# Altium integrated library Linear Technology Power Management Switching Regulator LTC1174-LTC3901.IntLib: 2647 symbols (part 298 of 364)
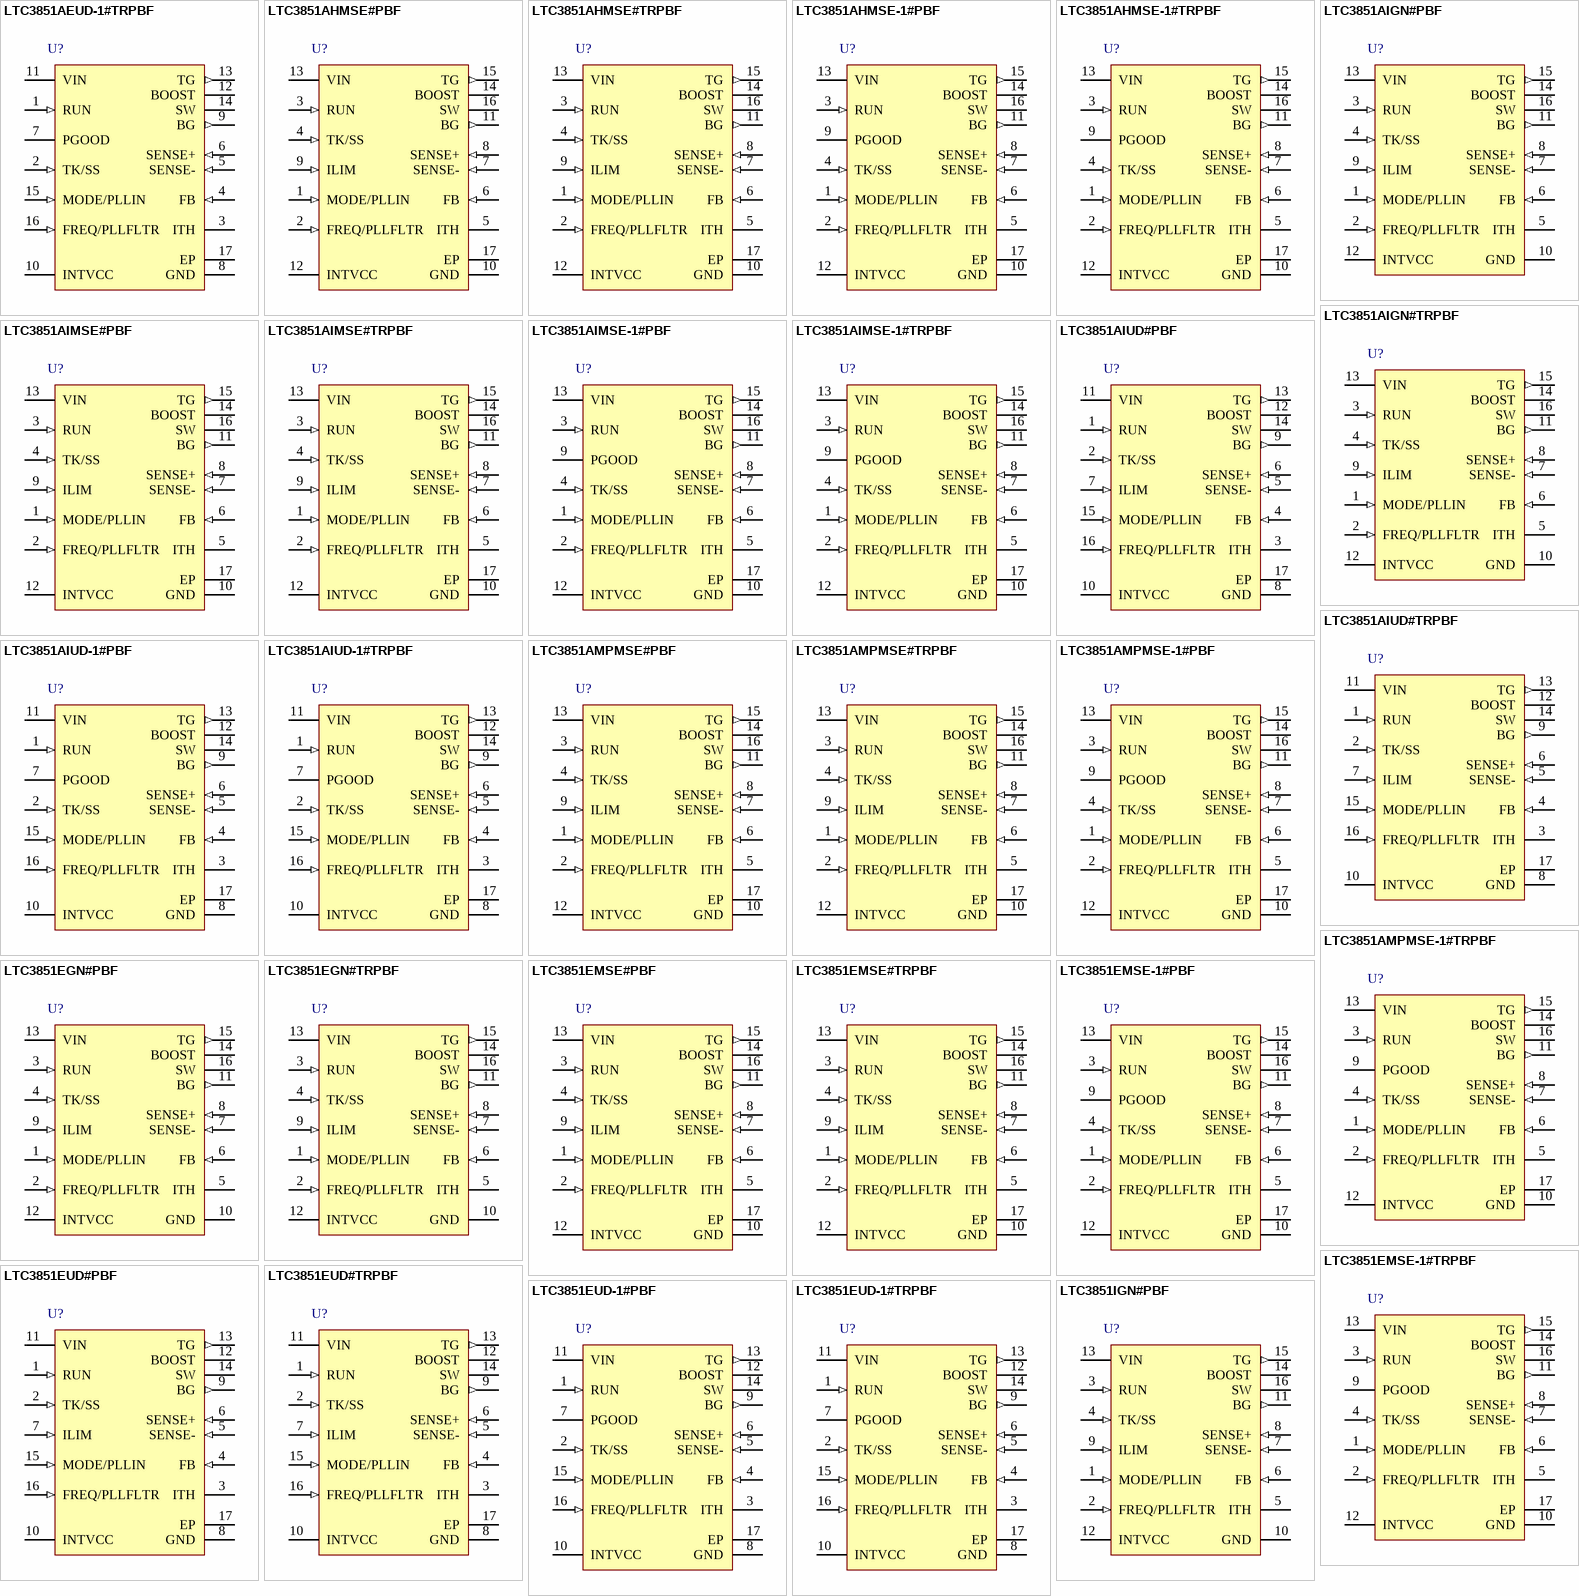
[diagram p271: symbols LTC3851AEUD-1#TRPBF to LTC3851IGN#PBF]

## LTC3851EUD#TRPBF
designator U?
Synchronous Step-Down Switching Regulator Controller, 16-pin QFN (UD-16), -40 to 85 degC, Pb-Free, Tape and Reel; Manufacturer: Linear Technology; PartNumber: LTC3851EUD#TRPBF; Frequency Sync Range: 250kHz - 750kHz; Number of Outputs: 1; DatasheetVersion: Rev. B; PackageVersion: Jun-10; PackageReference: UD-16; PackageDescription: 16-Pin Plastic QFN, Body 3 x 3 mm, Pitch 0.5 mm; Supplier 1: Digi-Key; Supplier Part Number 1: LTC3851EUD#TRPBF-ND; Supplier 2: Newark; Supplier Part Number 2: 15N5416; Packing: Tape and Reel; RoHS: TRUE; Mounting Technology: Surface Mount; Code_JEDEC: MO-220; ComponentLink1Description: Manufacturer URL; ComponentLink1URL: http://www.linear.com/; ComponentLink2Description: Datasheet; ComponentLink2URL: http://cds.linear.com/docs/en/datasheet/3851fb.pdf; ComponentLink3Description: Package Specification; ComponentLink3URL: http://cds.linear.com/docs/en/packaging/QFN_16_05-08-1691.pdf
footprint LT-UD-16_N (QFN, 16-Leads, Body 3x3mm, Pitch 0.5mm, Thermal Pad 1.45x1.45mm, IPC Medium Density)
footprint LT-UD-16_L (QFN, 16-Leads, Body 3x3mm, Pitch 0.5mm, Thermal Pad 1.45x1.45mm, IPC High Density)
footprint LT-UD-16_M (QFN, 16-Leads, Body 3x3mm, Pitch 0.5mm, Thermal Pad 1.45x1.45mm, IPC Low Density)
pins: 1 RUN (in), 2 TK/SS (in), 3 ITH "Current Control Threshold and Error Amplifier Compensation Point. The current comparator tripping threshold increases with its ITH control voltage.", 4 FB (in) "Error Amplifier Feedback Input. This pin receives the remotely sensed feedback voltage from an external resistive divider across the output.", 5 SENSE- (in) "Current Sense Comparator Inverting Input. The (-) input to the current comparator is connected to the output.", 6 SENSE+ (in) "Current Sense Comparator Noninverting Input. The (+) input to the current comparator is normally connected to the DCR sensing network or current sensing resistor.", 7 ILIM (in) "Current Comparator Sense Voltage Range Input. Tying this pin to GND, FLOAT or INTVCC selects the maximum current sense threshold from three different levels.", 8 GND (power) "Ground. All small-signal components and compensation components should be Kelvin connected to this ground. The (-) terminal of CVCC and the (-) terminal of CIN should be closely connected to this pin. The exposed pad should (See Datasheet)", 9 BG (out) "Bottom Gate Driver Output. This pin drives the gate of the bottom N-channel MOSFET between GND and INTVCC.", 10 INTVCC (power) "Internal 5V Regulator Output. The control circuit is powered from this voltage. Decouple this pin to GND with a minimum 2.2uF low ESR tantalum or ceramic capacitor.", 11 VIN (power) "Main Input Supply. Decouple this pin to GND with a capacitor.", 12 BOOST "Boosted Floating Driver Supply. The (+) terminal of the boost-strap capacitor is connected to this pin. This pin swings from a diode voltage drop below INTVCC up to VIN + INTVCC.", 13 TG (out) "Top Gate Driver Output. This is the output of a floating driver with a voltage swing equal to INTVCC superimposed on the switch node voltage.", 14 SW "Switch Node Connection to the Inductor. Voltage swing at this pin is from a Schottky diode (external) voltage drop below ground to VIN.", 15 MODE/PLLIN (in), 16 FREQ/PLLFLTR (in), 17 EP (power) "Ground. All small-signal components and compensation components should be Kelvin connected to this ground. The (-) terminal of CVCC and the (-) terminal of CIN should be closely connected to this pin. The exposed pad should (See Datasheet)"

## LTC3851EUD-1#PBF
designator U?
Synchronous Step-Down Switching Regulator Controller, 16-pin QFN (UD-16), -40 to 85 degC, Pb-Free; Manufacturer: Linear Technology; PartNumber: LTC3851EUD-1#PBF; Frequency Sync Range: 250kHz - 750kHz; Number of Outputs: 1; DatasheetVersion: Rev. A; PackageVersion: Jun-10; PackageReference: UD-16; PackageDescription: 16-Pin Plastic QFN, Body 3 x 3 mm, Pitch 0.5 mm; Supplier 1: Digi-Key; Supplier Part Number 1: LTC3851EUD-1#PBF-ND; RoHS: TRUE; Mounting Technology: Surface Mount; Code_JEDEC: MO-220; ComponentLink1Description: Manufacturer URL; ComponentLink1URL: http://www.linear.com/; ComponentLink2Description: Datasheet; ComponentLink2URL: http://cds.linear.com/docs/en/datasheet/38511fa.pdf; ComponentLink3Description: Package Specification; ComponentLink3URL: http://cds.linear.com/docs/en/packaging/QFN_16_05-08-1691.pdf
footprint LT-UD-16_N (QFN, 16-Leads, Body 3x3mm, Pitch 0.5mm, Thermal Pad 1.45x1.45mm, IPC Medium Density)
footprint LT-UD-16_L (QFN, 16-Leads, Body 3x3mm, Pitch 0.5mm, Thermal Pad 1.45x1.45mm, IPC High Density)
footprint LT-UD-16_M (QFN, 16-Leads, Body 3x3mm, Pitch 0.5mm, Thermal Pad 1.45x1.45mm, IPC Low Density)
pins: 1 RUN (in), 2 TK/SS (in), 3 ITH "Current Control Threshold and Error Amplifier Compensation Point. The current comparator tripping threshold increases with its ITH control voltage.", 4 FB (in) "Error Amplifier Feedback Input. This pin receives the remotely sensed feedback voltage from an external resistive divider across the output.", 5 SENSE- (in) "Current Sense Comparator Inverting Input. The (-) input to the current comparator is connected to the output.", 6 SENSE+ (in) "Current Sense Comparator Noninverting Input. The (+) input to the current comparator is normally connected to the DCR sensing network or current sensing resistor.", 7 PGOOD (oc) "Power Good Indicator Output. Opendrain logic out that is pulled to ground when the output voltage exceeds the +/-10% regulation window, after the internal 17us power bad mask timer expires.", 8 GND (power), 9 BG (out) "Bottom Gate Driver Output. This pin drives the gate of the bottom N-channel MOSFET between GND and INTVCC.", 10 INTVCC (power) "Internal 5V Regulator Output. The control circuit is powered from this voltage. Decouple this pin to GND with a minimum 2.2uF low ESR tantalum or ceramic capacitor.", 11 VIN (power) "Main Input Supply. Decouple this pin to GND with a capacitor.", 12 BOOST "Boosted Floating Driver Supply. The (+) terminal of the boost-strap capacitor is connected to this pin. This pin swings from a diode voltage drop below INTVCC up to VIN + INTVCC.", 13 TG (out) "Top Gate Driver Output. This is the output of a floating driver with a voltage swing equal to INTVCC superimposed on the switch node voltage.", 14 SW "Switch Node Connection to the Inductor. Voltage swing at this pin is from a Schottky diode (external) voltage drop below ground to VIN.", 15 MODE/PLLIN (in), 16 FREQ/PLLFLTR (in), 17 EP (power)

## LTC3851EUD-1#TRPBF
designator U?
Synchronous Step-Down Switching Regulator Controller, 16-pin QFN (UD-16), -40 to 85 degC, Pb-Free, Tape and Reel; Manufacturer: Linear Technology; PartNumber: LTC3851EUD-1#TRPBF; Frequency Sync Range: 250kHz - 750kHz; Number of Outputs: 1; DatasheetVersion: Rev. A; PackageVersion: Jun-10; PackageReference: UD-16; PackageDescription: 16-Pin Plastic QFN, Body 3 x 3 mm, Pitch 0.5 mm; Supplier 1: Digi-Key; Supplier Part Number 1: LTC3851EUD-1#TRPBF-ND; Packing: Tape and Reel; RoHS: TRUE; Mounting Technology: Surface Mount; Code_JEDEC: MO-220; ComponentLink1Description: Manufacturer URL; ComponentLink1URL: http://www.linear.com/; ComponentLink2Description: Datasheet; ComponentLink2URL: http://cds.linear.com/docs/en/datasheet/38511fa.pdf; ComponentLink3Description: Package Specification; ComponentLink3URL: http://cds.linear.com/docs/en/packaging/QFN_16_05-08-1691.pdf
footprint LT-UD-16_N (QFN, 16-Leads, Body 3x3mm, Pitch 0.5mm, Thermal Pad 1.45x1.45mm, IPC Medium Density)
footprint LT-UD-16_L (QFN, 16-Leads, Body 3x3mm, Pitch 0.5mm, Thermal Pad 1.45x1.45mm, IPC High Density)
footprint LT-UD-16_M (QFN, 16-Leads, Body 3x3mm, Pitch 0.5mm, Thermal Pad 1.45x1.45mm, IPC Low Density)
pins: 1 RUN (in), 2 TK/SS (in), 3 ITH "Current Control Threshold and Error Amplifier Compensation Point. The current comparator tripping threshold increases with its ITH control voltage.", 4 FB (in) "Error Amplifier Feedback Input. This pin receives the remotely sensed feedback voltage from an external resistive divider across the output.", 5 SENSE- (in) "Current Sense Comparator Inverting Input. The (-) input to the current comparator is connected to the output.", 6 SENSE+ (in) "Current Sense Comparator Noninverting Input. The (+) input to the current comparator is normally connected to the DCR sensing network or current sensing resistor.", 7 PGOOD (oc) "Power Good Indicator Output. Opendrain logic out that is pulled to ground when the output voltage exceeds the +/-10% regulation window, after the internal 17us power bad mask timer expires.", 8 GND (power), 9 BG (out) "Bottom Gate Driver Output. This pin drives the gate of the bottom N-channel MOSFET between GND and INTVCC.", 10 INTVCC (power) "Internal 5V Regulator Output. The control circuit is powered from this voltage. Decouple this pin to GND with a minimum 2.2uF low ESR tantalum or ceramic capacitor.", 11 VIN (power) "Main Input Supply. Decouple this pin to GND with a capacitor.", 12 BOOST "Boosted Floating Driver Supply. The (+) terminal of the boost-strap capacitor is connected to this pin. This pin swings from a diode voltage drop below INTVCC up to VIN + INTVCC.", 13 TG (out) "Top Gate Driver Output. This is the output of a floating driver with a voltage swing equal to INTVCC superimposed on the switch node voltage.", 14 SW "Switch Node Connection to the Inductor. Voltage swing at this pin is from a Schottky diode (external) voltage drop below ground to VIN.", 15 MODE/PLLIN (in), 16 FREQ/PLLFLTR (in), 17 EP (power)

## LTC3851IGN#PBF
designator U?
Synchronous Step-Down Switching Regulator Controller, 16-pin SOP (GN-16), -40 to 125 degC, Pb-Free; Manufacturer: Linear Technology; PartNumber: LTC3851IGN#PBF; Frequency Sync Range: 250kHz - 750kHz; Number of Outputs: 1; DatasheetVersion: Rev. B; PackageVersion: Rev. B, 03/2012; PackageReference: GN-16; PackageDescription: 16-Pin Plastic SSOP, Body 4.9 x 3.9 mm, Pitch 0.635 mm; Supplier 1: Digi-Key; Supplier Part Number 1: LTC3851IGN#PBF-ND; Supplier 2: Farnell; Supplier Part Number 2: 1673552; Supplier 3: Newark; Supplier Part Number 3: 12P6567; RoHS: TRUE; Mounting Technology: Surface Mount; ComponentLink1Description: Manufacturer URL; ComponentLink1URL: http://www.linear.com/; ComponentLink2Description: Datasheet; ComponentLink2URL: http://cds.linear.com/docs/en/datasheet/3851fb.pdf; ComponentLink3Description: Package Specification; ComponentLink3URL: http://cds.linear.com/docs/en/packaging/05081641_B_GN16.pdf
footprint LT-GN-16_N (SOP, 16-Leads, Body 5x4mm, Pitch 0.635mm, IPC Medium Density)
footprint LT-GN-16_L (SOP, 16-Leads, Body 5x4mm, Pitch 0.635mm, IPC High Density)
footprint LT-GN-16_M (SOP, 16-Leads, Body 5x4mm, Pitch 0.635mm, IPC Low Density)
pins: 1 MODE/PLLIN (in), 2 FREQ/PLLFLTR (in), 3 RUN (in), 4 TK/SS (in), 5 ITH "Current Control Threshold and Error Amplifier Compensation Point. The current comparator tripping threshold increases with its ITH control voltage.", 6 FB (in) "Error Amplifier Feedback Input. This pin receives the remotely sensed feedback voltage from an external resistive divider across the output.", 7 SENSE- (in) "Current Sense Comparator Inverting Input. The (-) input to the current comparator is connected to the output.", 8 SENSE+ (in) "Current Sense Comparator Noninverting Input. The (+) input to the current comparator is normally connected to the DCR sensing network or current sensing resistor.", 9 ILIM (in) "Current Comparator Sense Voltage Range Input. Tying this pin to GND, FLOAT or INTVCC selects the maximum current sense threshold from three different levels.", 10 GND (power), 11 BG (out) "Bottom Gate Driver Output. This pin drives the gate of the bottom N-channel MOSFET between GND and INTVCC.", 12 INTVCC (power) "Internal 5V Regulator Output. The control circuit is powered from this voltage. Decouple this pin to GND with a minimum 2.2uF low ESR tantalum or ceramic capacitor.", 13 VIN (power) "Main Input Supply. Decouple this pin to GND with a capacitor.", 14 BOOST "Boosted Floating Driver Supply. The (+) terminal of the boost-strap capacitor is connected to this pin. This pin swings from a diode voltage drop below INTVCC up to VIN + INTVCC.", 15 TG (out) "Top Gate Driver Output. This is the output of a floating driver with a voltage swing equal to INTVCC superimposed on the switch node voltage.", 16 SW "Switch Node Connection to the Inductor. Voltage swing at this pin is from a Schottky diode (external) voltage drop below ground to VIN."

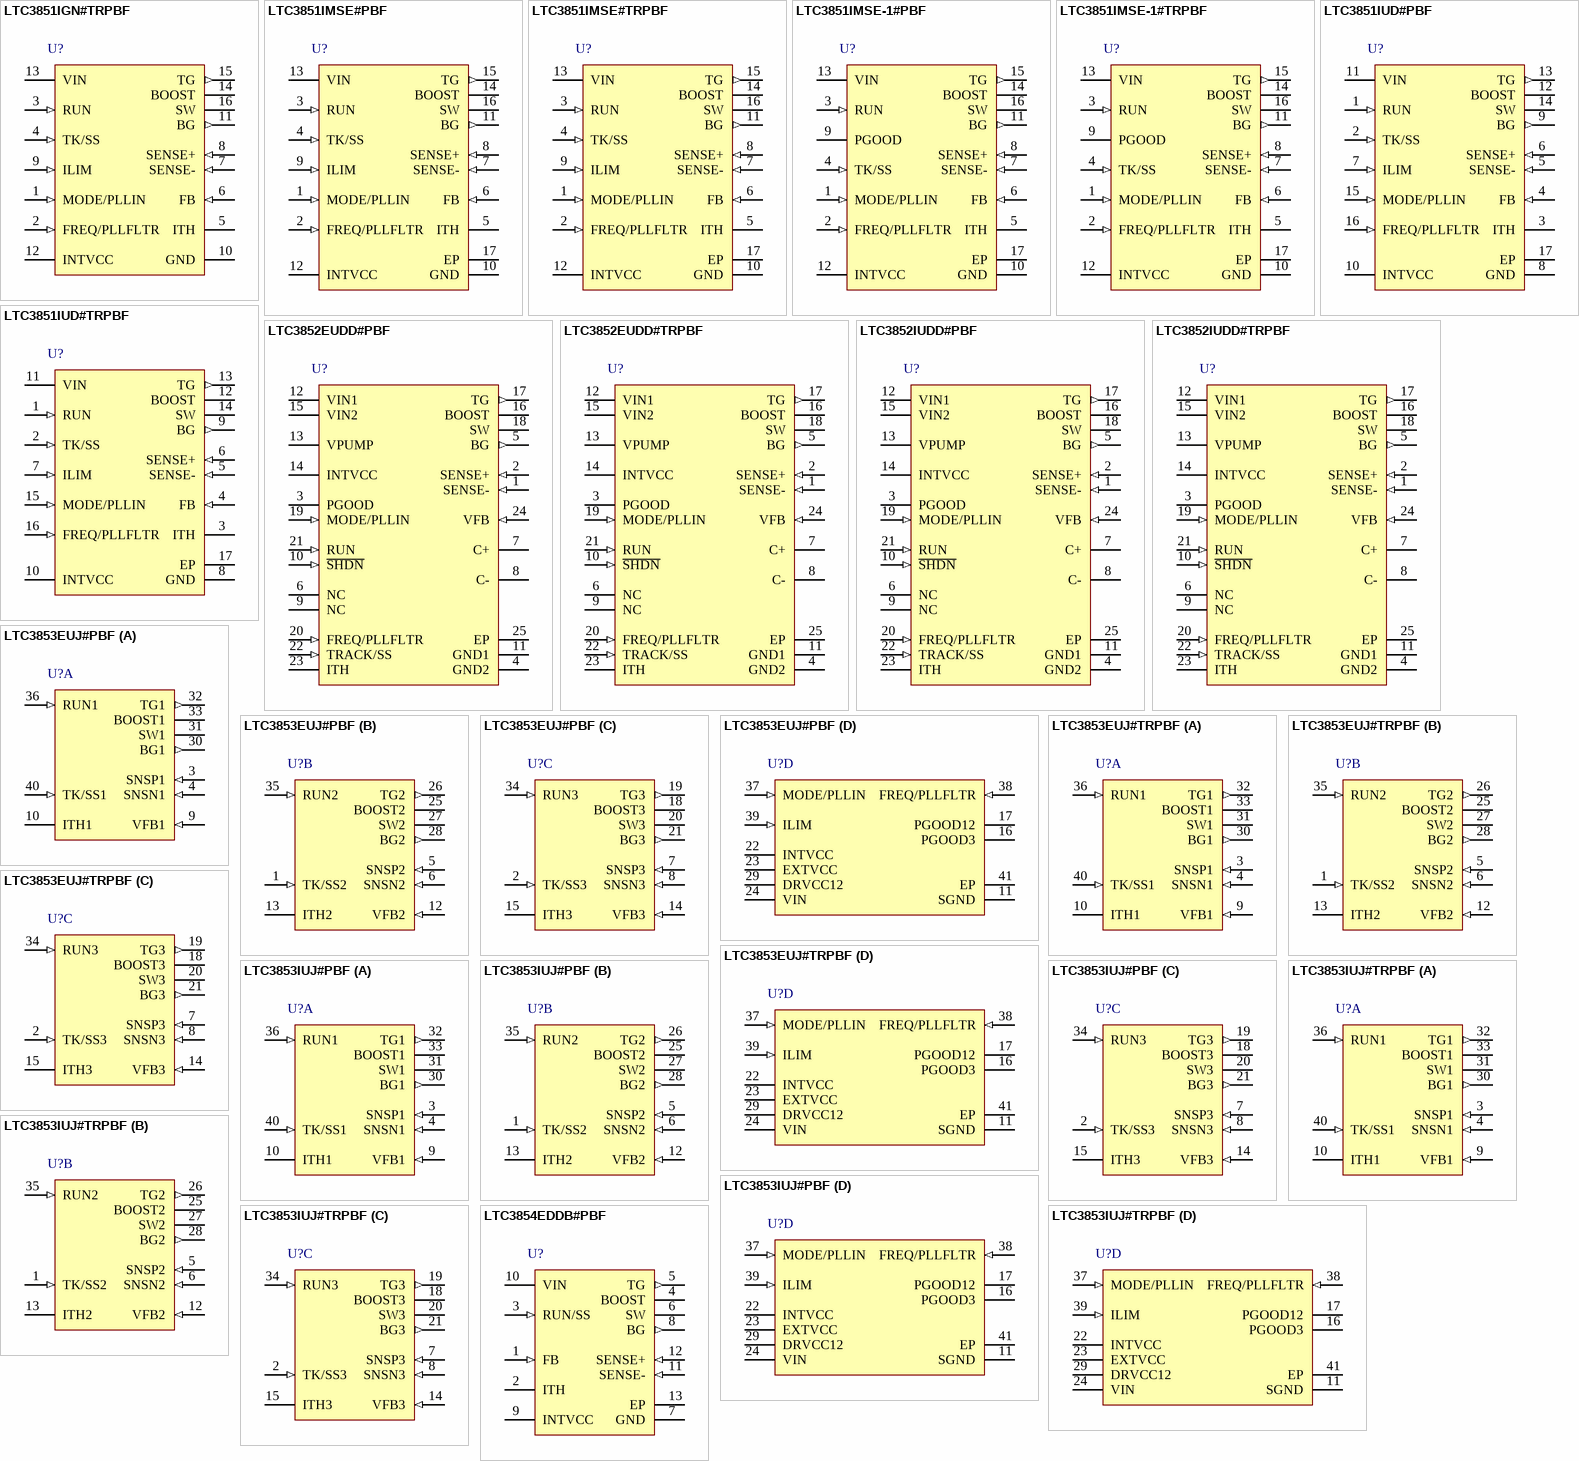
[diagram p93: symbols LTC3851IGN#TRPBF to LTC3854EDDB#PBF]

## LTC3851IGN#TRPBF
designator U?
Synchronous Step-Down Switching Regulator Controller, 16-pin SOP (GN-16), -40 to 125 degC, Pb-Free, Tape and Reel; Manufacturer: Linear Technology; PartNumber: LTC3851IGN#TRPBF; Frequency Sync Range: 250kHz - 750kHz; Number of Outputs: 1; DatasheetVersion: Rev. B; PackageVersion: Rev. B, 03/2012; PackageReference: GN-16; PackageDescription: 16-Pin Plastic SSOP, Body 4.9 x 3.9 mm, Pitch 0.635 mm; Supplier 1: Digi-Key; Supplier Part Number 1: LTC3851IGN#TRPBF-ND; Supplier 2: Newark; Supplier Part Number 2: 12P7564; Packing: Tape and Reel; RoHS: TRUE; Mounting Technology: Surface Mount; ComponentLink1Description: Manufacturer URL; ComponentLink1URL: http://www.linear.com/; ComponentLink2Description: Datasheet; ComponentLink2URL: http://cds.linear.com/docs/en/datasheet/3851fb.pdf; ComponentLink3Description: Package Specification; ComponentLink3URL: http://cds.linear.com/docs/en/packaging/05081641_B_GN16.pdf
footprint LT-GN-16_N (SOP, 16-Leads, Body 5x4mm, Pitch 0.635mm, IPC Medium Density)
footprint LT-GN-16_L (SOP, 16-Leads, Body 5x4mm, Pitch 0.635mm, IPC High Density)
footprint LT-GN-16_M (SOP, 16-Leads, Body 5x4mm, Pitch 0.635mm, IPC Low Density)
pins: 1 MODE/PLLIN (in), 2 FREQ/PLLFLTR (in), 3 RUN (in), 4 TK/SS (in), 5 ITH "Current Control Threshold and Error Amplifier Compensation Point. The current comparator tripping threshold increases with its ITH control voltage.", 6 FB (in) "Error Amplifier Feedback Input. This pin receives the remotely sensed feedback voltage from an external resistive divider across the output.", 7 SENSE- (in) "Current Sense Comparator Inverting Input. The (-) input to the current comparator is connected to the output.", 8 SENSE+ (in) "Current Sense Comparator Noninverting Input. The (+) input to the current comparator is normally connected to the DCR sensing network or current sensing resistor.", 9 ILIM (in) "Current Comparator Sense Voltage Range Input. Tying this pin to GND, FLOAT or INTVCC selects the maximum current sense threshold from three different levels.", 10 GND (power), 11 BG (out) "Bottom Gate Driver Output. This pin drives the gate of the bottom N-channel MOSFET between GND and INTVCC.", 12 INTVCC (power) "Internal 5V Regulator Output. The control circuit is powered from this voltage. Decouple this pin to GND with a minimum 2.2uF low ESR tantalum or ceramic capacitor.", 13 VIN (power) "Main Input Supply. Decouple this pin to GND with a capacitor.", 14 BOOST "Boosted Floating Driver Supply. The (+) terminal of the boost-strap capacitor is connected to this pin. This pin swings from a diode voltage drop below INTVCC up to VIN + INTVCC.", 15 TG (out) "Top Gate Driver Output. This is the output of a floating driver with a voltage swing equal to INTVCC superimposed on the switch node voltage.", 16 SW "Switch Node Connection to the Inductor. Voltage swing at this pin is from a Schottky diode (external) voltage drop below ground to VIN."

## LTC3851IMSE#PBF
designator U?
Synchronous Step-Down Switching Regulator Controller, 16-pin SOP (MSE-16-EDP), -40 to 125 degC, Pb-Free; Manufacturer: Linear Technology; PartNumber: LTC3851IMSE#PBF; Frequency Sync Range: 250kHz - 750kHz; Number of Outputs: 1; DatasheetVersion: Rev. B; PackageVersion: Rev. F, 05/2013; PackageReference: MSE-16; PackageDescription: 16-Pin Plastic MSOP, Exposed Die Pad, Body 4.039 x 3 mm, Pitch 0.5 mm; Supplier 1: Digi-Key; Supplier Part Number 1: LTC3851IMSE#PBF-ND; RoHS: TRUE; Mounting Technology: Surface Mount; ComponentLink1Description: Manufacturer URL; ComponentLink1URL: http://www.linear.com/; ComponentLink2Description: Datasheet; ComponentLink2URL: http://cds.linear.com/docs/en/datasheet/3851fb.pdf; ComponentLink3Description: Package Specification; ComponentLink3URL: http://cds.linear.com/docs/en/packaging/05081667_F_MSE16.pdf
footprint LT-MSE-16-EDP_N (SOP, 16-Leads, Body 4.1x3.1mm, Pitch 0.5mm, Thermal Pad 2.95x1.76mm, IPC Medium Density)
footprint LT-MSE-16-EDP_L (SOP, 16-Leads, Body 4.1x3.1mm, Pitch 0.5mm, Thermal Pad 2.95x1.76mm, IPC High Density)
footprint LT-MSE-16-EDP_M (SOP, 16-Leads, Body 4.1x3.1mm, Pitch 0.5mm, Thermal Pad 2.95x1.76mm, IPC Low Density)
pins: 1 MODE/PLLIN (in), 2 FREQ/PLLFLTR (in), 3 RUN (in), 4 TK/SS (in), 5 ITH "Current Control Threshold and Error Amplifier Compensation Point. The current comparator tripping threshold increases with its ITH control voltage.", 6 FB (in) "Error Amplifier Feedback Input. This pin receives the remotely sensed feedback voltage from an external resistive divider across the output.", 7 SENSE- (in) "Current Sense Comparator Inverting Input. The (-) input to the current comparator is connected to the output.", 8 SENSE+ (in) "Current Sense Comparator Noninverting Input. The (+) input to the current comparator is normally connected to the DCR sensing network or current sensing resistor.", 9 ILIM (in) "Current Comparator Sense Voltage Range Input. Tying this pin to GND, FLOAT or INTVCC selects the maximum current sense threshold from three different levels.", 10 GND (power) "Ground.", 11 BG (out) "Bottom Gate Driver Output. This pin drives the gate of the bottom N-channel MOSFET between GND and INTVCC.", 12 INTVCC (power) "Internal 5V Regulator Output. The control circuit is powered from this voltage. Decouple this pin to GND with a minimum 2.2uF low ESR tantalum or ceramic capacitor.", 13 VIN (power) "Main Input Supply. Decouple this pin to GND with a capacitor.", 14 BOOST "Boosted Floating Driver Supply. The (+) terminal of the boost-strap capacitor is connected to this pin. This pin swings from a diode voltage drop below INTVCC up to VIN + INTVCC.", 15 TG (out) "Top Gate Driver Output. This is the output of a floating driver with a voltage swing equal to INTVCC superimposed on the switch node voltage.", 16 SW "Switch Node Connection to the Inductor. Voltage swing at this pin is from a Schottky diode (external) voltage drop below ground to VIN.", 17 EP (power) "Ground."

## LTC3851IMSE#TRPBF
designator U?
Synchronous Step-Down Switching Regulator Controller, 16-pin SOP (MSE-16-EDP), -40 to 125 degC, Pb-Free, Tape and Reel; Manufacturer: Linear Technology; PartNumber: LTC3851IMSE#TRPBF; Frequency Sync Range: 250kHz - 750kHz; Number of Outputs: 1; DatasheetVersion: Rev. B; PackageVersion: Rev. F, 05/2013; PackageReference: MSE-16; PackageDescription: 16-Pin Plastic MSOP, Exposed Die Pad, Body 4.039 x 3 mm, Pitch 0.5 mm; Supplier 1: Digi-Key; Supplier Part Number 1: LTC3851IMSE#TRPBF-ND; Packing: Tape and Reel; RoHS: TRUE; Mounting Technology: Surface Mount; ComponentLink1Description: Manufacturer URL; ComponentLink1URL: http://www.linear.com/; ComponentLink2Description: Datasheet; ComponentLink2URL: http://cds.linear.com/docs/en/datasheet/3851fb.pdf; ComponentLink3Description: Package Specification; ComponentLink3URL: http://cds.linear.com/docs/en/packaging/05081667_F_MSE16.pdf
footprint LT-MSE-16-EDP_N (SOP, 16-Leads, Body 4.1x3.1mm, Pitch 0.5mm, Thermal Pad 2.95x1.76mm, IPC Medium Density)
footprint LT-MSE-16-EDP_L (SOP, 16-Leads, Body 4.1x3.1mm, Pitch 0.5mm, Thermal Pad 2.95x1.76mm, IPC High Density)
footprint LT-MSE-16-EDP_M (SOP, 16-Leads, Body 4.1x3.1mm, Pitch 0.5mm, Thermal Pad 2.95x1.76mm, IPC Low Density)
pins: 1 MODE/PLLIN (in), 2 FREQ/PLLFLTR (in), 3 RUN (in), 4 TK/SS (in), 5 ITH "Current Control Threshold and Error Amplifier Compensation Point. The current comparator tripping threshold increases with its ITH control voltage.", 6 FB (in) "Error Amplifier Feedback Input. This pin receives the remotely sensed feedback voltage from an external resistive divider across the output.", 7 SENSE- (in) "Current Sense Comparator Inverting Input. The (-) input to the current comparator is connected to the output.", 8 SENSE+ (in) "Current Sense Comparator Noninverting Input. The (+) input to the current comparator is normally connected to the DCR sensing network or current sensing resistor.", 9 ILIM (in) "Current Comparator Sense Voltage Range Input. Tying this pin to GND, FLOAT or INTVCC selects the maximum current sense threshold from three different levels.", 10 GND (power) "Ground.", 11 BG (out) "Bottom Gate Driver Output. This pin drives the gate of the bottom N-channel MOSFET between GND and INTVCC.", 12 INTVCC (power) "Internal 5V Regulator Output. The control circuit is powered from this voltage. Decouple this pin to GND with a minimum 2.2uF low ESR tantalum or ceramic capacitor.", 13 VIN (power) "Main Input Supply. Decouple this pin to GND with a capacitor.", 14 BOOST "Boosted Floating Driver Supply. The (+) terminal of the boost-strap capacitor is connected to this pin. This pin swings from a diode voltage drop below INTVCC up to VIN + INTVCC.", 15 TG (out) "Top Gate Driver Output. This is the output of a floating driver with a voltage swing equal to INTVCC superimposed on the switch node voltage.", 16 SW "Switch Node Connection to the Inductor. Voltage swing at this pin is from a Schottky diode (external) voltage drop below ground to VIN.", 17 EP (power) "Ground."

## LTC3851IMSE-1#PBF
designator U?
Synchronous Step-Down Switching Regulator Controller, 16-pin SOP (MSE-16-EDP), -40 to 125 degC, Pb-Free; Manufacturer: Linear Technology; PartNumber: LTC3851IMSE-1#PBF; Frequency Sync Range: 250kHz - 750kHz; Number of Outputs: 1; DatasheetVersion: Rev. A; PackageVersion: Rev. F, 05/2013; PackageReference: MSE-16; PackageDescription: 16-Pin Plastic MSOP, Exposed Die Pad, Body 4.039 x 3 mm, Pitch 0.5 mm; Supplier 1: Digi-Key; Supplier Part Number 1: LTC3851IMSE-1#PBF-ND; RoHS: TRUE; Mounting Technology: Surface Mount; ComponentLink1Description: Manufacturer URL; ComponentLink1URL: http://www.linear.com/; ComponentLink2Description: Datasheet; ComponentLink2URL: http://cds.linear.com/docs/en/datasheet/38511fa.pdf; ComponentLink3Description: Package Specification; ComponentLink3URL: http://cds.linear.com/docs/en/packaging/05081667_F_MSE16.pdf
footprint LT-MSE-16-EDP_N (SOP, 16-Leads, Body 4.1x3.1mm, Pitch 0.5mm, Thermal Pad 2.95x1.76mm, IPC Medium Density)
footprint LT-MSE-16-EDP_L (SOP, 16-Leads, Body 4.1x3.1mm, Pitch 0.5mm, Thermal Pad 2.95x1.76mm, IPC High Density)
footprint LT-MSE-16-EDP_M (SOP, 16-Leads, Body 4.1x3.1mm, Pitch 0.5mm, Thermal Pad 2.95x1.76mm, IPC Low Density)
pins: 1 MODE/PLLIN (in), 2 FREQ/PLLFLTR (in), 3 RUN (in), 4 TK/SS (in), 5 ITH "Current Control Threshold and Error Amplifier Compensation Point. The current comparator tripping threshold increases with its ITH control voltage.", 6 FB (in) "Error Amplifier Feedback Input. This pin receives the remotely sensed feedback voltage from an external resistive divider across the output.", 7 SENSE- (in) "Current Sense Comparator Inverting Input. The (-) input to the current comparator is connected to the output.", 8 SENSE+ (in) "Current Sense Comparator Noninverting Input. The (+) input to the current comparator is normally connected to the DCR sensing network or current sensing resistor.", 9 PGOOD (oc) "Power Good Indicator Output. Opendrain logic out that is pulled to ground when the output voltage exceeds the +/-10% regulation window, after the internal 17us power bad mask timer expires.", 10 GND (power) "Ground.", 11 BG (out) "Bottom Gate Driver Output. This pin drives the gate of the bottom N-channel MOSFET between GND and INTVCC.", 12 INTVCC (power) "Internal 5V Regulator Output. The control circuit is powered from this voltage. Decouple this pin to GND with a minimum 2.2uF low ESR tantalum or ceramic capacitor.", 13 VIN (power) "Main Input Supply. Decouple this pin to GND with a capacitor.", 14 BOOST "Boosted Floating Driver Supply. The (+) terminal of the boost-strap capacitor is connected to this pin. This pin swings from a diode voltage drop below INTVCC up to VIN + INTVCC.", 15 TG (out) "Top Gate Driver Output. This is the output of a floating driver with a voltage swing equal to INTVCC superimposed on the switch node voltage.", 16 SW "Switch Node Connection to the Inductor. Voltage swing at this pin is from a Schottky diode (external) voltage drop below ground to VIN.", 17 EP (power) "Ground."

## LTC3851IMSE-1#TRPBF
designator U?
Synchronous Step-Down Switching Regulator Controller, 16-pin SOP (MSE-16-EDP), -40 to 125 degC, Pb-Free, Tape and Reel; Manufacturer: Linear Technology; PartNumber: LTC3851IMSE-1#TRPBF; Frequency Sync Range: 250kHz - 750kHz; Number of Outputs: 1; DatasheetVersion: Rev. A; PackageVersion: Rev. F, 05/2013; PackageReference: MSE-16; PackageDescription: 16-Pin Plastic MSOP, Exposed Die Pad, Body 4.039 x 3 mm, Pitch 0.5 mm; Supplier 1: Digi-Key; Supplier Part Number 1: LTC3851IMSE-1#TRPBF-ND; Packing: Tape and Reel; RoHS: TRUE; Mounting Technology: Surface Mount; ComponentLink1Description: Manufacturer URL; ComponentLink1URL: http://www.linear.com/; ComponentLink2Description: Datasheet; ComponentLink2URL: http://cds.linear.com/docs/en/datasheet/38511fa.pdf; ComponentLink3Description: Package Specification; ComponentLink3URL: http://cds.linear.com/docs/en/packaging/05081667_F_MSE16.pdf
footprint LT-MSE-16-EDP_N (SOP, 16-Leads, Body 4.1x3.1mm, Pitch 0.5mm, Thermal Pad 2.95x1.76mm, IPC Medium Density)
footprint LT-MSE-16-EDP_L (SOP, 16-Leads, Body 4.1x3.1mm, Pitch 0.5mm, Thermal Pad 2.95x1.76mm, IPC High Density)
footprint LT-MSE-16-EDP_M (SOP, 16-Leads, Body 4.1x3.1mm, Pitch 0.5mm, Thermal Pad 2.95x1.76mm, IPC Low Density)
pins: 1 MODE/PLLIN (in), 2 FREQ/PLLFLTR (in), 3 RUN (in), 4 TK/SS (in), 5 ITH "Current Control Threshold and Error Amplifier Compensation Point. The current comparator tripping threshold increases with its ITH control voltage.", 6 FB (in) "Error Amplifier Feedback Input. This pin receives the remotely sensed feedback voltage from an external resistive divider across the output.", 7 SENSE- (in) "Current Sense Comparator Inverting Input. The (-) input to the current comparator is connected to the output.", 8 SENSE+ (in) "Current Sense Comparator Noninverting Input. The (+) input to the current comparator is normally connected to the DCR sensing network or current sensing resistor.", 9 PGOOD (oc) "Power Good Indicator Output. Opendrain logic out that is pulled to ground when the output voltage exceeds the +/-10% regulation window, after the internal 17us power bad mask timer expires.", 10 GND (power) "Ground.", 11 BG (out) "Bottom Gate Driver Output. This pin drives the gate of the bottom N-channel MOSFET between GND and INTVCC.", 12 INTVCC (power) "Internal 5V Regulator Output. The control circuit is powered from this voltage. Decouple this pin to GND with a minimum 2.2uF low ESR tantalum or ceramic capacitor.", 13 VIN (power) "Main Input Supply. Decouple this pin to GND with a capacitor.", 14 BOOST "Boosted Floating Driver Supply. The (+) terminal of the boost-strap capacitor is connected to this pin. This pin swings from a diode voltage drop below INTVCC up to VIN + INTVCC.", 15 TG (out) "Top Gate Driver Output. This is the output of a floating driver with a voltage swing equal to INTVCC superimposed on the switch node voltage.", 16 SW "Switch Node Connection to the Inductor. Voltage swing at this pin is from a Schottky diode (external) voltage drop below ground to VIN.", 17 EP (power) "Ground."

## LTC3851IUD#PBF
designator U?
Synchronous Step-Down Switching Regulator Controller, 16-pin QFN (UD-16), -40 to 125 degC, Pb-Free; Manufacturer: Linear Technology; PartNumber: LTC3851IUD#PBF; Frequency Sync Range: 250kHz - 750kHz; Number of Outputs: 1; DatasheetVersion: Rev. B; PackageVersion: Jun-10; PackageReference: UD-16; PackageDescription: 16-Pin Plastic QFN, Body 3 x 3 mm, Pitch 0.5 mm; Supplier 1: Digi-Key; Supplier Part Number 1: LTC3851IUD#PBF-ND; RoHS: TRUE; Mounting Technology: Surface Mount; Code_JEDEC: MO-220; ComponentLink1Description: Manufacturer URL; ComponentLink1URL: http://www.linear.com/; ComponentLink2Description: Datasheet; ComponentLink2URL: http://cds.linear.com/docs/en/datasheet/3851fb.pdf; ComponentLink3Description: Package Specification; ComponentLink3URL: http://cds.linear.com/docs/en/packaging/QFN_16_05-08-1691.pdf
footprint LT-UD-16_N (QFN, 16-Leads, Body 3x3mm, Pitch 0.5mm, Thermal Pad 1.45x1.45mm, IPC Medium Density)
footprint LT-UD-16_L (QFN, 16-Leads, Body 3x3mm, Pitch 0.5mm, Thermal Pad 1.45x1.45mm, IPC High Density)
footprint LT-UD-16_M (QFN, 16-Leads, Body 3x3mm, Pitch 0.5mm, Thermal Pad 1.45x1.45mm, IPC Low Density)
pins: 1 RUN (in), 2 TK/SS (in), 3 ITH "Current Control Threshold and Error Amplifier Compensation Point. The current comparator tripping threshold increases with its ITH control voltage.", 4 FB (in) "Error Amplifier Feedback Input. This pin receives the remotely sensed feedback voltage from an external resistive divider across the output.", 5 SENSE- (in) "Current Sense Comparator Inverting Input. The (-) input to the current comparator is connected to the output.", 6 SENSE+ (in) "Current Sense Comparator Noninverting Input. The (+) input to the current comparator is normally connected to the DCR sensing network or current sensing resistor.", 7 ILIM (in) "Current Comparator Sense Voltage Range Input. Tying this pin to GND, FLOAT or INTVCC selects the maximum current sense threshold from three different levels.", 8 GND (power) "Ground. All small-signal components and compensation components should be Kelvin connected to this ground. The (-) terminal of CVCC and the (-) terminal of CIN should be closely connected to this pin. The exposed pad should (See Datasheet)", 9 BG (out) "Bottom Gate Driver Output. This pin drives the gate of the bottom N-channel MOSFET between GND and INTVCC.", 10 INTVCC (power) "Internal 5V Regulator Output. The control circuit is powered from this voltage. Decouple this pin to GND with a minimum 2.2uF low ESR tantalum or ceramic capacitor.", 11 VIN (power) "Main Input Supply. Decouple this pin to GND with a capacitor.", 12 BOOST "Boosted Floating Driver Supply. The (+) terminal of the boost-strap capacitor is connected to this pin. This pin swings from a diode voltage drop below INTVCC up to VIN + INTVCC.", 13 TG (out) "Top Gate Driver Output. This is the output of a floating driver with a voltage swing equal to INTVCC superimposed on the switch node voltage.", 14 SW "Switch Node Connection to the Inductor. Voltage swing at this pin is from a Schottky diode (external) voltage drop below ground to VIN.", 15 MODE/PLLIN (in), 16 FREQ/PLLFLTR (in), 17 EP (power) "Ground. All small-signal components and compensation components should be Kelvin connected to this ground. The (-) terminal of CVCC and the (-) terminal of CIN should be closely connected to this pin. The exposed pad should (See Datasheet)"

## LTC3851IUD#TRPBF
designator U?
Synchronous Step-Down Switching Regulator Controller, 16-pin QFN (UD-16), -40 to 125 degC, Pb-Free, Tape and Reel; Manufacturer: Linear Technology; PartNumber: LTC3851IUD#TRPBF; Frequency Sync Range: 250kHz - 750kHz; Number of Outputs: 1; DatasheetVersion: Rev. B; PackageVersion: Jun-10; PackageReference: UD-16; PackageDescription: 16-Pin Plastic QFN, Body 3 x 3 mm, Pitch 0.5 mm; Supplier 1: Digi-Key; Supplier Part Number 1: LTC3851IUD#TRPBF-ND; Packing: Tape and Reel; RoHS: TRUE; Mounting Technology: Surface Mount; Code_JEDEC: MO-220; ComponentLink1Description: Manufacturer URL; ComponentLink1URL: http://www.linear.com/; ComponentLink2Description: Datasheet; ComponentLink2URL: http://cds.linear.com/docs/en/datasheet/3851fb.pdf; ComponentLink3Description: Package Specification; ComponentLink3URL: http://cds.linear.com/docs/en/packaging/QFN_16_05-08-1691.pdf
footprint LT-UD-16_N (QFN, 16-Leads, Body 3x3mm, Pitch 0.5mm, Thermal Pad 1.45x1.45mm, IPC Medium Density)
footprint LT-UD-16_L (QFN, 16-Leads, Body 3x3mm, Pitch 0.5mm, Thermal Pad 1.45x1.45mm, IPC High Density)
footprint LT-UD-16_M (QFN, 16-Leads, Body 3x3mm, Pitch 0.5mm, Thermal Pad 1.45x1.45mm, IPC Low Density)
pins: 1 RUN (in), 2 TK/SS (in), 3 ITH "Current Control Threshold and Error Amplifier Compensation Point. The current comparator tripping threshold increases with its ITH control voltage.", 4 FB (in) "Error Amplifier Feedback Input. This pin receives the remotely sensed feedback voltage from an external resistive divider across the output.", 5 SENSE- (in) "Current Sense Comparator Inverting Input. The (-) input to the current comparator is connected to the output.", 6 SENSE+ (in) "Current Sense Comparator Noninverting Input. The (+) input to the current comparator is normally connected to the DCR sensing network or current sensing resistor.", 7 ILIM (in) "Current Comparator Sense Voltage Range Input. Tying this pin to GND, FLOAT or INTVCC selects the maximum current sense threshold from three different levels.", 8 GND (power) "Ground. All small-signal components and compensation components should be Kelvin connected to this ground. The (-) terminal of CVCC and the (-) terminal of CIN should be closely connected to this pin. The exposed pad should (See Datasheet)", 9 BG (out) "Bottom Gate Driver Output. This pin drives the gate of the bottom N-channel MOSFET between GND and INTVCC.", 10 INTVCC (power) "Internal 5V Regulator Output. The control circuit is powered from this voltage. Decouple this pin to GND with a minimum 2.2uF low ESR tantalum or ceramic capacitor.", 11 VIN (power) "Main Input Supply. Decouple this pin to GND with a capacitor.", 12 BOOST "Boosted Floating Driver Supply. The (+) terminal of the boost-strap capacitor is connected to this pin. This pin swings from a diode voltage drop below INTVCC up to VIN + INTVCC.", 13 TG (out) "Top Gate Driver Output. This is the output of a floating driver with a voltage swing equal to INTVCC superimposed on the switch node voltage.", 14 SW "Switch Node Connection to the Inductor. Voltage swing at this pin is from a Schottky diode (external) voltage drop below ground to VIN.", 15 MODE/PLLIN (in), 16 FREQ/PLLFLTR (in), 17 EP (power) "Ground. All small-signal components and compensation components should be Kelvin connected to this ground. The (-) terminal of CVCC and the (-) terminal of CIN should be closely connected to this pin. The exposed pad should (See Datasheet)"

## LTC3852EUDD#PBF
designator U?
Low Input Voltage, Synchronous Step-Down DC/DC Controller, 24-pin QFN (UDD-24), -40 to 125 degC, Pb-Free; Manufacturer: Linear Technology; PartNumber: LTC3852EUDD#PBF; Frequency Sync Range: 250kHz - 750kHz; Number of Outputs: 1; PackageVersion: Rev. Ø, 05/2011; PackageReference: UDD-24; PackageDescription: 24-Pin Plastic QFN, Body 5 x 3 mm, Pitch 0.5 mm; Supplier 1: Digi-Key; Supplier Part Number 1: LTC3852EUDD#PBF-ND; Supplier 2: Farnell; Supplier Part Number 2: 1869420; Supplier 3: Newark; Supplier Part Number 3: 13T3946; RoHS: TRUE; Mounting Technology: Surface Mount; ComponentLink1Description: Manufacturer URL; ComponentLink1URL: http://www.linear.com/; ComponentLink2Description: Datasheet; ComponentLink2URL: http://cds.linear.com/docs/en/datasheet/3852f.pdf; ComponentLink3Description: Package Specification; ComponentLink3URL: http://cds.linear.com/docs/en/packaging/(UDD24)%20QFN%2005-08-1833%20Rev%20%C3%98.pdf
footprint LT-UDD-24_N (QFN, 24-Leads, Body 5.1x3.1mm, Pitch 0.5mm, Thermal Pad 3.65x1.65mm, IPC Medium Density)
footprint LT-UDD-24_L (QFN, 24-Leads, Body 5.1x3.1mm, Pitch 0.5mm, Thermal Pad 3.65x1.65mm, IPC High Density)
footprint LT-UDD-24_M (QFN, 24-Leads, Body 5.1x3.1mm, Pitch 0.5mm, Thermal Pad 3.65x1.65mm, IPC Low Density)
pins: 1 SENSE- (in) "The (-) Input to the Current Sense Comparators. Kelvin connect to VOUT at the current sense resistor or, if DCR sensing is used, at the inductor.", 2 SENSE+ (in) "Current Sense Comparator Noninverting Input. The (+) input to the current comparator is normally connected to the DCR sensing network or current sensing resistor.", 3 PGOOD (oc) "Power Good Indicator Output. Open drain logic out that is pulled to ground when the output voltage exceeds the +/-10% regulation window, after the internal 17us power bad mask timer expires.", 4 GND2 (power) "Buck Controller Ground. All small-signal components and compensation components should be Kelvin connected to this ground. The (-) terminal of CINTVCC should be closely connected to this pin. The exposed pad must be soldered (See Datasheet)", 5 BG (out) "Bottom Gate Driver Output. This pin drives the gate of the bottom N-channel MOSFET between GND and INTVCC.", 6 NC "No Connection", 7 C+ "Flying Capacitor Positive Terminal.", 8 C- "Flying Capacitor Negative Terminal.", 9 NC "No Connection", 10 ~{SHDN} (in) "Active Low Shutdown Input. A low on S\H\D\N\ disables the charge pump. This pin must not be allowed to float.", 11 GND1 (power) "Charge Pump Ground. The (-) terminals of CIN and CVPUMP should be closely connected to this pin.", 12 VIN1 (power) "Input Supply Voltage to Charge Pump. VIN1 should be bypassed with a 1uF to 4.7uF low ESR ceramic capacitor.", 13 VPUMP (power) "Regulated Output Voltage from Charge Pump. For best performance, VPUMP should be bypassed with a low ESR ceramic capacitor providing at least 2.2uF of capacitance as close to the pin as possible.", 14 INTVCC (power) "Gate Drive Supply. The MOSFET drivers and internal logic are powered from this voltage. Bypass this pin to GND with a minimum 2.2uF low ESR tantalum or ceramic capacitor, CINTVCC.", 15 VIN2 (power) "Main Supply Pin for Step-Down Controller. A bypass capacitor should be tied between this pin and the GND2 pin.", 16 BOOST "Boosted Floating Driver Supply. The (+) terminal of the booststrap capacitor is connected to this pin. This pin swings from a diode voltage drop below INTVCC up to VIN1 + INTVCC.", 17 TG (out) "Top Gate Driver Output. This is the output of a floating driver with a voltage swing equal to INTVCC superimposed on the switch node voltage.", 18 SW "Switch Node Connection to the Inductor. Voltage swing at this pin is from a diode (external) voltage drop below ground to the buck regulator power stage VIN.", 19 MODE/PLLIN (in) "Forced Continuous Mode, Burst Mode operation or Pulse-Skipping Mode Selection Pin and External Synchronization Input to Phase Detector Pin. Connect this pin to INTVCC to force continuous conduction mode of operation. Connect (See Datasheet)", 20 FREQ/PLLFLTR (in) "The phase-locked loop’s lowpass filter is tied to this pin. Alternatively, a resistor can be connected between this pin and GND2 to vary the frequency of the internal oscillator.", 21 RUN (in) "Run Control Input. Forcing the pin below 1.25V shuts down the step-down controller. There is a 2uA pull-up current on this pin.", 22 TRACK/SS (in) "Output Voltage Tracking and Soft-Start Input. A capacitor to ground at this pin sets the ramp rate for the output voltage. An internal soft-start current of 1uA charges this capacitor.", 23 ITH "Error Amplifier Output and Switching Regulator Compensation Point. The current comparator input threshold increases with this control voltage.", 24 VFB (in) "Error Amplifier Feedback Input. This pin receives the remotely sensed feedback voltage from an external resistive divider across the output.", 25 EP (power) "Ground. Must be soldered to PCB, providing a local ground for the IC."

## LTC3852EUDD#TRPBF
designator U?
Low Input Voltage, Synchronous Step-Down DC/DC Controller, 24-pin QFN (UDD-24), -40 to 125 degC, Pb-Free, Tape and Reel; Manufacturer: Linear Technology; PartNumber: LTC3852EUDD#TRPBF; Frequency Sync Range: 250kHz - 750kHz; Number of Outputs: 1; PackageVersion: Rev. Ø, 05/2011; PackageReference: UDD-24; PackageDescription: 24-Pin Plastic QFN, Body 5 x 3 mm, Pitch 0.5 mm; Supplier 1: Digi-Key; Supplier Part Number 1: LTC3852EUDD#TRPBF-ND; Packing: Tape and Reel; RoHS: TRUE; Mounting Technology: Surface Mount; ComponentLink1Description: Manufacturer URL; ComponentLink1URL: http://www.linear.com/; ComponentLink2Description: Datasheet; ComponentLink2URL: http://cds.linear.com/docs/en/datasheet/3852f.pdf; ComponentLink3Description: Package Specification; ComponentLink3URL: http://cds.linear.com/docs/en/packaging/(UDD24)%20QFN%2005-08-1833%20Rev%20%C3%98.pdf
footprint LT-UDD-24_N (QFN, 24-Leads, Body 5.1x3.1mm, Pitch 0.5mm, Thermal Pad 3.65x1.65mm, IPC Medium Density)
footprint LT-UDD-24_L (QFN, 24-Leads, Body 5.1x3.1mm, Pitch 0.5mm, Thermal Pad 3.65x1.65mm, IPC High Density)
footprint LT-UDD-24_M (QFN, 24-Leads, Body 5.1x3.1mm, Pitch 0.5mm, Thermal Pad 3.65x1.65mm, IPC Low Density)
pins: 1 SENSE- (in) "The (-) Input to the Current Sense Comparators. Kelvin connect to VOUT at the current sense resistor or, if DCR sensing is used, at the inductor.", 2 SENSE+ (in) "Current Sense Comparator Noninverting Input. The (+) input to the current comparator is normally connected to the DCR sensing network or current sensing resistor.", 3 PGOOD (oc) "Power Good Indicator Output. Open drain logic out that is pulled to ground when the output voltage exceeds the +/-10% regulation window, after the internal 17us power bad mask timer expires.", 4 GND2 (power) "Buck Controller Ground. All small-signal components and compensation components should be Kelvin connected to this ground. The (-) terminal of CINTVCC should be closely connected to this pin. The exposed pad must be soldered (See Datasheet)", 5 BG (out) "Bottom Gate Driver Output. This pin drives the gate of the bottom N-channel MOSFET between GND and INTVCC.", 6 NC "No Connection", 7 C+ "Flying Capacitor Positive Terminal.", 8 C- "Flying Capacitor Negative Terminal.", 9 NC "No Connection", 10 ~{SHDN} (in) "Active Low Shutdown Input. A low on S\H\D\N\ disables the charge pump. This pin must not be allowed to float.", 11 GND1 (power) "Charge Pump Ground. The (-) terminals of CIN and CVPUMP should be closely connected to this pin.", 12 VIN1 (power) "Input Supply Voltage to Charge Pump. VIN1 should be bypassed with a 1uF to 4.7uF low ESR ceramic capacitor.", 13 VPUMP (power) "Regulated Output Voltage from Charge Pump. For best performance, VPUMP should be bypassed with a low ESR ceramic capacitor providing at least 2.2uF of capacitance as close to the pin as possible.", 14 INTVCC (power) "Gate Drive Supply. The MOSFET drivers and internal logic are powered from this voltage. Bypass this pin to GND with a minimum 2.2uF low ESR tantalum or ceramic capacitor, CINTVCC.", 15 VIN2 (power) "Main Supply Pin for Step-Down Controller. A bypass capacitor should be tied between this pin and the GND2 pin.", 16 BOOST "Boosted Floating Driver Supply. The (+) terminal of the booststrap capacitor is connected to this pin. This pin swings from a diode voltage drop below INTVCC up to VIN1 + INTVCC.", 17 TG (out) "Top Gate Driver Output. This is the output of a floating driver with a voltage swing equal to INTVCC superimposed on the switch node voltage.", 18 SW "Switch Node Connection to the Inductor. Voltage swing at this pin is from a diode (external) voltage drop below ground to the buck regulator power stage VIN.", 19 MODE/PLLIN (in) "Forced Continuous Mode, Burst Mode operation or Pulse-Skipping Mode Selection Pin and External Synchronization Input to Phase Detector Pin. Connect this pin to INTVCC to force continuous conduction mode of operation. Connect (See Datasheet)", 20 FREQ/PLLFLTR (in) "The phase-locked loop’s lowpass filter is tied to this pin. Alternatively, a resistor can be connected between this pin and GND2 to vary the frequency of the internal oscillator.", 21 RUN (in) "Run Control Input. Forcing the pin below 1.25V shuts down the step-down controller. There is a 2uA pull-up current on this pin.", 22 TRACK/SS (in) "Output Voltage Tracking and Soft-Start Input. A capacitor to ground at this pin sets the ramp rate for the output voltage. An internal soft-start current of 1uA charges this capacitor.", 23 ITH "Error Amplifier Output and Switching Regulator Compensation Point. The current comparator input threshold increases with this control voltage.", 24 VFB (in) "Error Amplifier Feedback Input. This pin receives the remotely sensed feedback voltage from an external resistive divider across the output.", 25 EP (power) "Ground. Must be soldered to PCB, providing a local ground for the IC."

## LTC3852IUDD#PBF
designator U?
Low Input Voltage, Synchronous Step-Down DC/DC Controller, 24-pin QFN (UDD-24), -40 to 125 degC, Pb-Free; Manufacturer: Linear Technology; PartNumber: LTC3852IUDD#PBF; Frequency Sync Range: 250kHz - 750kHz; Number of Outputs: 1; PackageVersion: Rev. Ø, 05/2011; PackageReference: UDD-24; PackageDescription: 24-Pin Plastic QFN, Body 5 x 3 mm, Pitch 0.5 mm; Supplier 1: Digi-Key; Supplier Part Number 1: LTC3852IUDD#PBF-ND; RoHS: TRUE; Mounting Technology: Surface Mount; ComponentLink1Description: Manufacturer URL; ComponentLink1URL: http://www.linear.com/; ComponentLink2Description: Datasheet; ComponentLink2URL: http://cds.linear.com/docs/en/datasheet/3852f.pdf; ComponentLink3Description: Package Specification; ComponentLink3URL: http://cds.linear.com/docs/en/packaging/(UDD24)%20QFN%2005-08-1833%20Rev%20%C3%98.pdf
footprint LT-UDD-24_N (QFN, 24-Leads, Body 5.1x3.1mm, Pitch 0.5mm, Thermal Pad 3.65x1.65mm, IPC Medium Density)
footprint LT-UDD-24_L (QFN, 24-Leads, Body 5.1x3.1mm, Pitch 0.5mm, Thermal Pad 3.65x1.65mm, IPC High Density)
footprint LT-UDD-24_M (QFN, 24-Leads, Body 5.1x3.1mm, Pitch 0.5mm, Thermal Pad 3.65x1.65mm, IPC Low Density)
pins: 1 SENSE- (in) "The (-) Input to the Current Sense Comparators. Kelvin connect to VOUT at the current sense resistor or, if DCR sensing is used, at the inductor.", 2 SENSE+ (in) "Current Sense Comparator Noninverting Input. The (+) input to the current comparator is normally connected to the DCR sensing network or current sensing resistor.", 3 PGOOD (oc) "Power Good Indicator Output. Open drain logic out that is pulled to ground when the output voltage exceeds the +/-10% regulation window, after the internal 17us power bad mask timer expires.", 4 GND2 (power) "Buck Controller Ground. All small-signal components and compensation components should be Kelvin connected to this ground. The (-) terminal of CINTVCC should be closely connected to this pin. The exposed pad must be soldered (See Datasheet)", 5 BG (out) "Bottom Gate Driver Output. This pin drives the gate of the bottom N-channel MOSFET between GND and INTVCC.", 6 NC "No Connection", 7 C+ "Flying Capacitor Positive Terminal.", 8 C- "Flying Capacitor Negative Terminal.", 9 NC "No Connection", 10 ~{SHDN} (in) "Active Low Shutdown Input. A low on S\H\D\N\ disables the charge pump. This pin must not be allowed to float.", 11 GND1 (power) "Charge Pump Ground. The (-) terminals of CIN and CVPUMP should be closely connected to this pin.", 12 VIN1 (power) "Input Supply Voltage to Charge Pump. VIN1 should be bypassed with a 1uF to 4.7uF low ESR ceramic capacitor.", 13 VPUMP (power) "Regulated Output Voltage from Charge Pump. For best performance, VPUMP should be bypassed with a low ESR ceramic capacitor providing at least 2.2uF of capacitance as close to the pin as possible.", 14 INTVCC (power) "Gate Drive Supply. The MOSFET drivers and internal logic are powered from this voltage. Bypass this pin to GND with a minimum 2.2uF low ESR tantalum or ceramic capacitor, CINTVCC.", 15 VIN2 (power) "Main Supply Pin for Step-Down Controller. A bypass capacitor should be tied between this pin and the GND2 pin.", 16 BOOST "Boosted Floating Driver Supply. The (+) terminal of the booststrap capacitor is connected to this pin. This pin swings from a diode voltage drop below INTVCC up to VIN1 + INTVCC.", 17 TG (out) "Top Gate Driver Output. This is the output of a floating driver with a voltage swing equal to INTVCC superimposed on the switch node voltage.", 18 SW "Switch Node Connection to the Inductor. Voltage swing at this pin is from a diode (external) voltage drop below ground to the buck regulator power stage VIN.", 19 MODE/PLLIN (in) "Forced Continuous Mode, Burst Mode operation or Pulse-Skipping Mode Selection Pin and External Synchronization Input to Phase Detector Pin. Connect this pin to INTVCC to force continuous conduction mode of operation. Connect (See Datasheet)", 20 FREQ/PLLFLTR (in) "The phase-locked loop’s lowpass filter is tied to this pin. Alternatively, a resistor can be connected between this pin and GND2 to vary the frequency of the internal oscillator.", 21 RUN (in) "Run Control Input. Forcing the pin below 1.25V shuts down the step-down controller. There is a 2uA pull-up current on this pin.", 22 TRACK/SS (in) "Output Voltage Tracking and Soft-Start Input. A capacitor to ground at this pin sets the ramp rate for the output voltage. An internal soft-start current of 1uA charges this capacitor.", 23 ITH "Error Amplifier Output and Switching Regulator Compensation Point. The current comparator input threshold increases with this control voltage.", 24 VFB (in) "Error Amplifier Feedback Input. This pin receives the remotely sensed feedback voltage from an external resistive divider across the output.", 25 EP (power) "Ground. Must be soldered to PCB, providing a local ground for the IC."